# Altium footprint library Osciladores.PcbLib: 2 footprints
Each footprint in its own frame and in the unit in brackets; x right, y up, seen from the top. Pads: shape width x height; smd on the part's side, far side on the other; paste and mask are expansions set on the pad; w line width, h text height; cw(c..) or ccw(c..) is an arc to the next point about the centre after c.
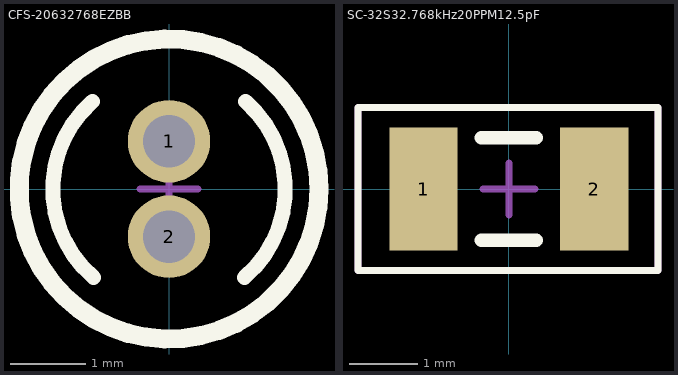
[diagram p0: the footprints below, top view; thin cyan lines are the x and y axes]

## CFS-20632768EZBB [mm]
pads (2):
  round 1.1 hole 0.7: 1(0,0.635) 2(0,-0.635)
Top Overlay:
  circle w0.254: c0,0 r2
  lines w0.2: -1.022,1.165 ccw(c0,0) -1.006,-1.179 ; 1.006,-1.179 ccw(c0,0) 1.022,1.165
Top Courtyard:
  circle w0.1: c0,0 r2
  lines w0.1: -0.381,0 0,0 ; 0,-0.381 0,0 ; 0,0.381 0,0 ; 0.381,0 0,0
  text "'.Designator'" at -1.103,0.894 h0.2
3D body "Cristal_32_768_cilindro.stp": height 9.72, standoff -1.43, extent -1.55,-1.55 1.55,1.55

## SC-32S32.768kHz20PPM12.5pF [mm]
pads (2):
  rect 1x1.8 smd: 1(-1.25,0) 2(1.25,0)
Top Overlay:
  lines w0.1: -2.21,-1.194 -2.21,0 -2.21,1.194 ; -2.2,-1.194 2.184,-1.194 2.184,1.194 -2.2,1.194
  lines w0.2: -0.4,-0.75 0.4,-0.75 ; -0.4,0.75 0.4,0.75
Top Courtyard:
  lines w0.1: -0.381,0 0,0 ; 0,-0.381 0,0 ; 0,0.381 0,0 ; 0.381,0 0,0 ; -2.21,-1.194 2.184,-1.194 2.184,1.194 -2.21,1.194 -2.21,-1.194
  text ".Designator" at -1.636,0.716 h0.2
3D body "Cristal_32_768_SC-32S.stp": height 0.84, standoff 0, extent -1.651,-0.838 1.651,0.762